# Altium footprint library 243-336_MP_Manette_ETU.PcbLib: 23 footprints (part 2 of 2)
Each footprint in its own frame and in the unit in brackets; x right, y up, seen from the top. Pads: shape width x height; smd on the part's side, far side on the other; paste and mask are expansions set on the pad; w line width, h text height; cw(c..) or ccw(c..) is an arc to the next point about the centre after c.
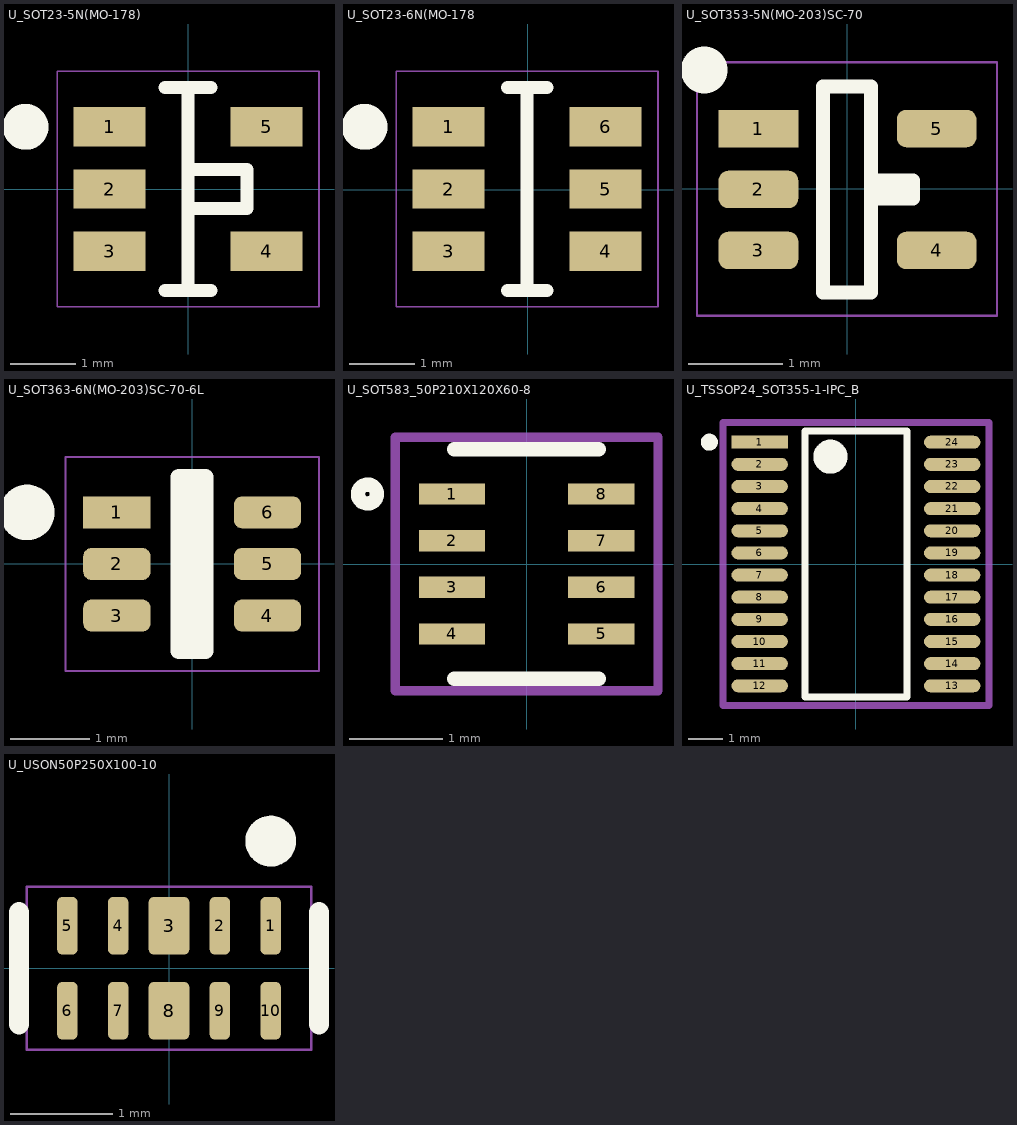
[diagram p1: the footprints below, top view; thin cyan lines are the x and y axes]

## U_SOT23-5N(MO-178) [mm]
height 1
pads (5):
  rect 1.1x0.6 smd: 1(-1.204,0.95) 2(-1.204,0) 3(-1.204,-0.95) 4(1.196,-0.95) 5(1.196,0.95)
Top Overlay:
  circle w0.5: c-2.488,0.95 r0.1
  lines w0.2: -0.354,-1.55 0.346,-1.55 ; -0.354,1.55 0.346,1.55 ; -0.004,-1.55 -0.004,1.55 ; -0.004,-0.3 0.896,-0.3 0.896,0.3 -0.004,0.3
Top Courtyard:
  lines w0.025: -2.004,-1.8 -2.004,1.8 1.996,1.8 1.996,-1.8 -2.004,-1.8
Top Designator:
  text ".Designator" at -3.378,-0.339 h1.5
3D body "User Library-SOT23-5-2.STEP": height 1.45, standoff 0, extent -1.4,-1.45 1.4,1.45

## U_SOT23-6N(MO-178 [mm]
height 1
pads (6):
  rect 1.1x0.6 smd: 1(-1.21,0.962) 2(-1.21,0.012) 3(-1.21,-0.938) 4(1.19,-0.938) 5(1.19,0.012) 6(1.19,0.962)
Top Overlay:
  circle w0.5: c-2.494,0.962 r0.1
  lines w0.2: -0.31,-1.538 0.29,-1.538 ; -0.31,1.562 0.29,1.562 ; -0.01,-1.538 -0.01,1.562
Top Courtyard:
  lines w0.025: -2.01,-1.788 1.99,-1.788 1.99,1.812 -2.01,1.812 -2.01,-1.788
Top Designator:
  text ".Designator" at -0.337,2.489 h1.5
3D body "User Library-SOT23-6-2.STEP": height 1.45, standoff 0, extent -1.4,-1.45 1.4,1.45

## U_SOT353-5N(MO-203)SC-70 [mm]
height 1.45
pads (5):
  rect 0.85x0.4 smd: 1(-0.944,0.645)
  rrect50% 0.85x0.4 smd: 2(-0.944,-0.005) 3(-0.944,-0.655) 4(0.956,-0.655) 5(0.956,0.645)
Top Overlay:
  circle w0.5: c-1.524,1.27 r0
  lines w0.15: 0.254,-0.01 0.706,-0.01 ; 0.706,0 0.706,-0.1 ; 0.254,-0.1 0.254,0.09 ; 0.254,-0.1 0.254,-1.105 -0.254,-1.105 -0.254,1.095 0.254,1.095 0.254,0.09 ; 0.254,-0.1 0.706,-0.1 ; 0.254,0.09 0.706,0.09 0.706,-0.1
Top Courtyard:
  lines w0.025: -1.6,-1.35 1.6,-1.35 1.6,1.35 -1.6,1.35 -1.6,-1.35
Top Designator:
  text ".Designator" at -2.489,-0.212 h1.5
3D body "User Library-SOT353-1.STEP": height 1.1, standoff 0, extent -1.2,-1.1 1.2,1.1

## U_SOT363-6N(MO-203)SC-70-6L [mm]
height 1.45
pads (6):
  rect 0.85x0.4 smd: 1(-0.95,0.65)
  rrect50% 0.85x0.4 smd: 2(-0.95,0) 3(-0.95,-0.65) 4(0.95,-0.65) 5(0.95,0) 6(0.95,0.65)
Top Overlay:
  circle w0.5: c-2.085,0.65 r0.1
  lines w0.203: -0.07,-1.1 -0.07,1.1 ; 0.03,-1.1 0.03,1.1 ; -0.17,-1.1 0.17,-1.1 0.17,-0.095 0.17,1.1 -0.17,1.1 -0.17,-1.1
Top Courtyard:
  lines w0.025: -1.6,-1.35 1.6,-1.35 1.6,1.35 -1.6,1.35 -1.6,-1.35
Top Designator:
  text ".Designator" at -2.489,-0.212 h1.5
3D body "User Library-SOT-363.STEP": height 1, standoff -0.05, extent -1.131,-1 1.131,1

## U_SOT583_50P210X120X60-8 [mil] "SOT-583"
pads (8):
  rect 28x9 smd paste+0 mask+0: 1(-31.5,29.53) 2(-31.5,9.84) 3(-31.5,-9.84) 4(-31.5,-29.53) 5(31.5,-29.53) 6(31.5,-9.84) 7(31.5,9.84) 8(31.5,29.53)
Top Overlay:
  circle w6: c-67.19,29.53 r4
  lines w6: -30.5,-48.5 30.5,-48.5 ; -30.5,48.5 30.5,48.5
Top Courtyard:
  lines w3.94: -55.5,-53.5 -35.5,-53.5 35.5,-53.5 55.5,-53.5 55.5,53.5 35.5,53.5 -35.5,53.5 -55.5,53.5 -55.5,-53.5
Top Designator:
  text ".Designator" at -98,-8.35 h59.06
3D body "TPS631000DRLR_TEX.step": height 27.09, standoff 0, extent -33.5,-43.5 33.5,43.5

## U_TSSOP24_SOT355-1-IPC_B [mm]
pads (24):
  rect 1.655x0.381 smd paste+0 mask+0: 1(-2.825,3.575)
  rrect100% 1.655x0.381 smd paste+0 mask+0: 2(-2.825,2.925) 3(-2.825,2.275) 4(-2.825,1.625) 5(-2.825,0.975) 6(-2.825,0.325) 7(-2.825,-0.325) 8(-2.825,-0.975) 9(-2.825,-1.625) 10(-2.825,-2.275) 11(-2.825,-2.925) 12(-2.825,-3.575) 13(2.825,-3.575) 14(2.825,-2.925) 15(2.825,-2.275) 16(2.825,-1.625) 17(2.825,-0.975) 18(2.825,-0.325) 19(2.825,0.325) 20(2.825,0.975) 21(2.825,1.625) 22(2.825,2.275) 23(2.825,2.925) 24(2.825,3.575)
Top Overlay:
  circle w0.5: c-0.748,3.15 r0.25
  circle w0.25: c-4.303,3.575 r0.125
  lines w0.2: -1.498,-3.9 1.498,-3.9 1.498,3.9 -1.498,3.9 -1.498,-3.9
Top Courtyard:
  lines w0.2: -3.903,-4.15 3.903,-4.15 3.903,4.15 -3.903,4.15 -3.903,-4.15
Top Designator:
  text ".Designator" at -0.337,3.239 h1.5
3D body "IC_NXP_Semiconductors_PCAL6416APW_118_eec.STEP": height 0.25, standoff 0, extent -3.903,-4.15 3.903,4.15

## U_USON50P250X100-10 [mm]
height 2.65
pads (10):
  rrect50% 0.2x0.565 smd paste+0 mask+0: 1(1,0.417) 2(0.5,0.417) 4(-0.5,0.417) 5(-1,0.417) 6(-1,-0.417) 7(-0.5,-0.417) 9(0.5,-0.417) 10(1,-0.417)
  rrect25% 0.4x0.565 smd paste-0.025 mask+0: 3(0,0.417) 8(0,-0.417)
Top Overlay:
  circle w0.25: c1,1.25 r0.125
  lines w0.2: -1.475,-0.55 -1.475,0.55 ; 1.475,-0.55 1.475,0.55
Top Courtyard:
  lines w0.025: -1.4,-0.8 1.4,-0.8 1.4,0.8 -1.4,0.8 -1.4,-0.8
Top Designator:
  text ".Designator" at -1.109,-0.226 h1
3D body "Diode_Texas_Instruments_ESD204DQAR_eec.STEP": height 0.25, standoff 0, extent -1.4,-0.8 1.4,0.8